# EAGLE library part TMP117MAIDRVR (library miller)
TMP117 temperature sensor, +/- 0.1C accuracy.
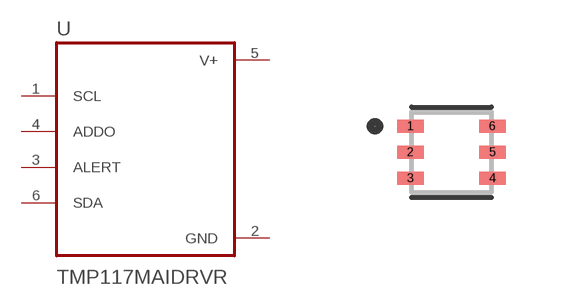
[diagram p44: symbol with the pads of SON65P200X200X80-7N; footprint SON65P200X200X80-7N]

Designator prefix U

## TMP117MAIDRVR (AVAILABILITY: Warning; DESCRIPTION: 0.1C accurate digital temperature sensor with integrated NV memory 6-WSON 0 to 85; MF: Texas Instruments; MP: TMP117MAIDRVR; PACKAGE: WSON-6 Texas Instruments; PRICE: None; PURCHASE-URL: https://pricing.snapeda.com/search/part/TMP117MAIDRVR/?ref=eda)  [SON65P200X200X80-7N]
1  SCL  in
2  GND  pwr
3  ALERT
4  ADDO
5  V+  pwr
6  SDA

## Footprint SON65P200X200X80-7N (pad centres in mm)
WSON 6 pin package, with center pad removed. Use for TMP117 temperature sensor
smd 0.66 x 0.32: 1 -1.025,0.65; 2 -1.025,0; 3 -1.025,-0.65; 4 1.025,-0.65; 5 1.025,0; 6 1.025,0.65